# EAGLE library part HUZZAH (library Other)
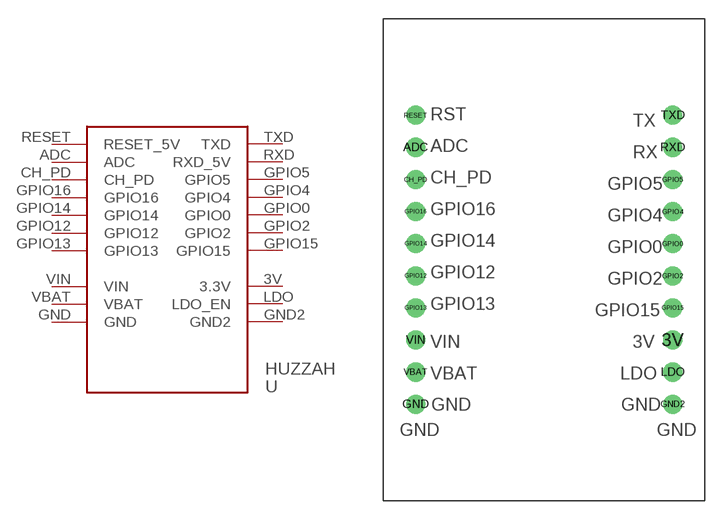
[diagram p0: symbol with the pads of HUZZAH; footprint HUZZAH]

Designator prefix U

## HUZZAH  [HUZZAH]
3V  3.3V
ADC  ADC
CH_PD  CH_PD
GND  GND
GND2  GND2
GPIO0  GPIO0
GPIO2  GPIO2
GPIO4  GPIO4
GPIO5  GPIO5
GPIO12  GPIO12
GPIO13  GPIO13
GPIO14  GPIO14
GPIO15  GPIO15
GPIO16  GPIO16
LDO  LDO_EN
RESET  RESET_5V
RXD  RXD_5V
TXD  TXD
VBAT  VBAT
VIN  VIN

## Footprint HUZZAH (pad centres in mm)
drill 1: 3V 10.16,-6.35; ADC -10.16,8.89; CH_PD -10.16,6.35; GND -10.16,-11.43; GND2 10.16,-11.43; GPIO0 10.16,1.27; GPIO2 10.16,-1.27; GPIO4 10.16,3.81; GPIO5 10.16,6.35; GPIO12 -10.16,-1.27; GPIO13 -10.16,-3.81; GPIO14 -10.16,1.27; GPIO15 10.16,-3.81; GPIO16 -10.16,3.81; LDO 10.16,-8.89; RESET -10.16,11.43; RXD 10.16,8.89; TXD 10.16,11.43; VBAT -10.16,-8.89; VIN -10.16,-6.35